# EAGLE library part HEXABIT_?_REVERSED (library hexabitz_connectors)
Hexabitz Hexagon Module Connector Hexagon side length = 18.00mm. Reversed inside-out.
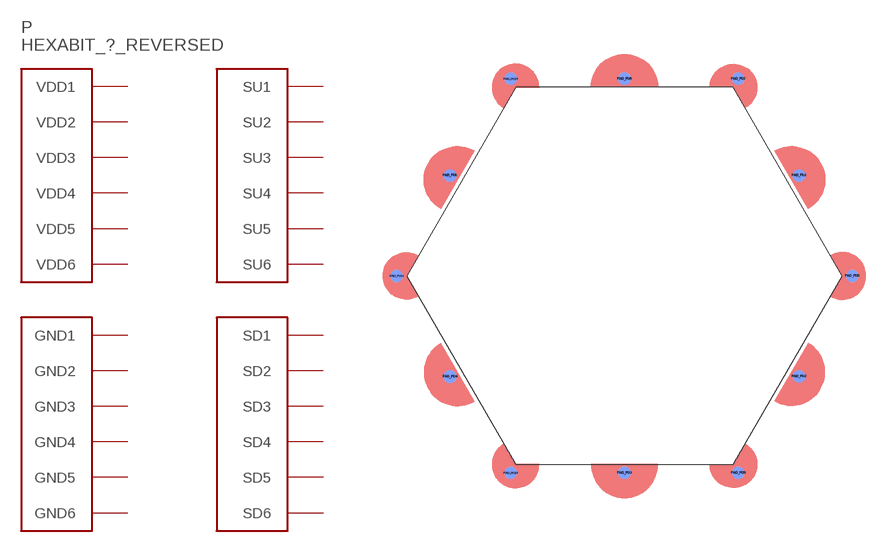
[diagram p17: symbol with the pads of HEXABIT_18.00_REVERSED; footprint HEXABIT_18.00_REVERSED]

Designator prefix P

## HEXABIT_18.00_REVERSED  [HEXABIT_18.00_REVERSED]
PAD_PD1  SD1
PAD_PD2  SD2
PAD_PD3  SD3
PAD_PD4  SD4
PAD_PD5  SD5
PAD_PD6  SD6
PAD_PD7  GND1  pwr
PAD_PD8  GND2  pwr
PAD_PD9  GND3  pwr
PAD_PD10  GND4  pwr
PAD_PD11  GND5  pwr
PAD_PD12  GND6  pwr
PAD_PU1  SU1
PAD_PU2  SU2
PAD_PU3  SU3
PAD_PU4  SU4
PAD_PU5  SU5
PAD_PU6  SU6
PAD_PU7  VDD1  pwr
PAD_PU8  VDD2  pwr
PAD_PU9  VDD3  pwr
PAD_PU10  VDD4  pwr
PAD_PU11  VDD5  pwr
PAD_PU12  VDD6  pwr

## Footprint HEXABIT_18.00_REVERSED (pad centres in mm)
smd 1 x 1 bottom: PAD_PD1 14.1,8.13; PAD_PD2 14.1,-8.13; PAD_PD3 0,-15.934; PAD_PD4 -14.1,-8.15; PAD_PD5 -14.1,8.13; PAD_PD6 0,15.934; PAD_PD7 9.2,15.934; PAD_PD8 18.4,0; PAD_PD9 9.2,-15.934; PAD_PD10 -9.2,-15.934; PAD_PD11 -18.4,0; PAD_PD12 -9.2,15.934
smd 1 x 1: PAD_PU1 14.1,8.13; PAD_PU2 14.1,-8.13; PAD_PU3 0,-15.934; PAD_PU4 -14.1,-8.15; PAD_PU5 -14.1,8.13; PAD_PU6 0,15.934; PAD_PU7 9.2,15.934; PAD_PU8 18.4,0; PAD_PU9 9.2,-15.934; PAD_PU10 -9.2,-15.934; PAD_PU11 -18.4,0; PAD_PU12 -9.2,15.934